# EAGLE library part S3860M-S (library S3860M-S)
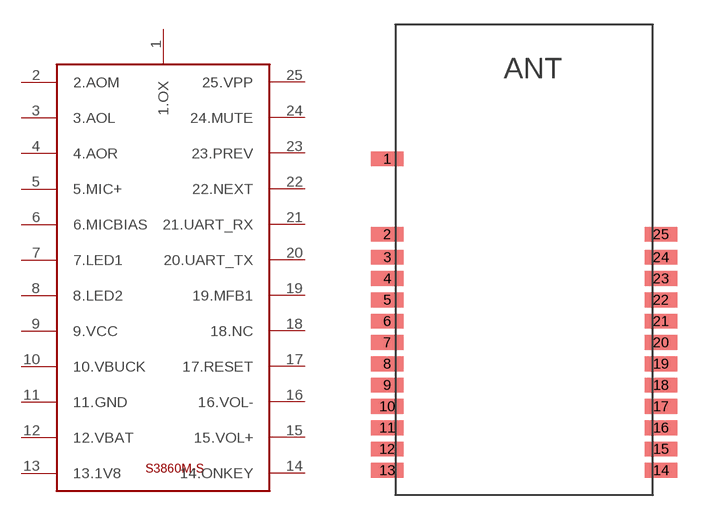
[diagram p0: symbol with the pads of S3860M-S; footprint S3860M-S]

Designator prefix -

## S3860M-S  [S3860M-S]
1  1.OX
2  2.AOM
3  3.AOL
4  4.AOR
5  5.MIC+
6  6.MICBIAS
7  7.LED1
8  8.LED2
9  9.VCC
10  10.VBUCK
11  11.GND
12  12.VBAT
13  13.1V8
14  14.ONKEY
15  15.VOL+
16  16.VOL-
17  17.RESET
18  18.NC
19  19.MFB1
20  20.UART_TX
21  21.UART_RX
22  22.NEXT
23  23.PREV
24  24.MUTE
25  25.VPP

## Footprint S3860M-S (pad centres in mm)
smd 2 x 0.9: 1 -0.5,-6.2; 2 -0.5,-10.8; 3 -0.5,-12.2; 4 -0.5,-13.5; 5 -0.5,-14.8; 6 -0.5,-16.1; 7 -0.5,-17.4; 8 -0.5,-18.7; 9 -0.5,-20; 10 -0.5,-21.3; 11 -0.5,-22.6; 12 -0.5,-23.9; 13 -0.5,-25.2; 14 16.2,-25.2; 15 16.2,-23.9; 16 16.2,-22.6; 17 16.2,-21.3; 18 16.2,-20; 19 16.2,-18.7; 20 16.2,-17.4; 21 16.2,-16.1; 22 16.2,-14.8; 23 16.2,-13.5; 24 16.2,-12.2; 25 16.2,-10.8